# EAGLE library part AD8402 (library DAC)
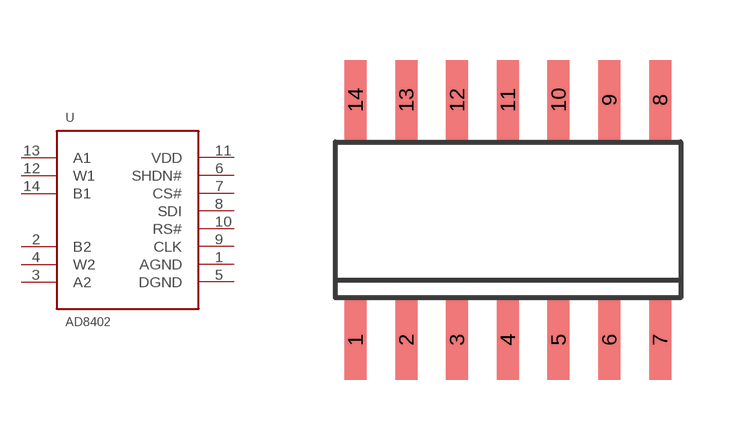
[diagram p30: symbol with the pads of MICRO-SL14; footprint MICRO-SL14]

Designator prefix U

## AD8402  [MICRO-SL14]
1  AGND  pwr
2  B2
3  A2
4  W2
5  DGND  pwr
6  SHDN#  in
7  CS#  in
8  SDI  in
9  CLK  in
10  RS#  out
11  VDD  pwr
12  W1
13  A1
14  B1

## Footprint MICRO-SL14 (pad centres in mm)
smd 0.55 x 2: 1 -3.81,-3.005; 2 -2.54,-3; 3 -1.27,-3; 4 0,-3; 5 1.27,-3; 6 2.54,-3; 7 3.81,-3; 8 3.81,3; 9 2.54,3; 10 1.27,3; 11 0,3; 12 -1.27,3; 13 -2.54,3; 14 -3.81,3